# Altium schematic symbol library TL3200AF160GRQ.Schlib: 1 symbol
Pins are listed as number, name and electrical type; pins without a type are passive.

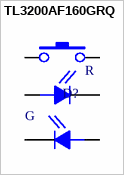
[diagram p0: symbol TL3200AF160GRQ]

## TL3200AF160GRQ
designator D?  (value not drawn)
pins: 1, 2, 3 A_R, 4 C_R, 5 A_G, 6 C_G
text: R; G